# Altium footprint library MP002808.PcbLib: 1 footprints
Each footprint in its own frame and in the unit in brackets; x right, y up, seen from the top. Pads: shape width x height; smd on the part's side, far side on the other; paste and mask are expansions set on the pad; w line width, h text height; cw(c..) or ccw(c..) is an arc to the next point about the centre after c.
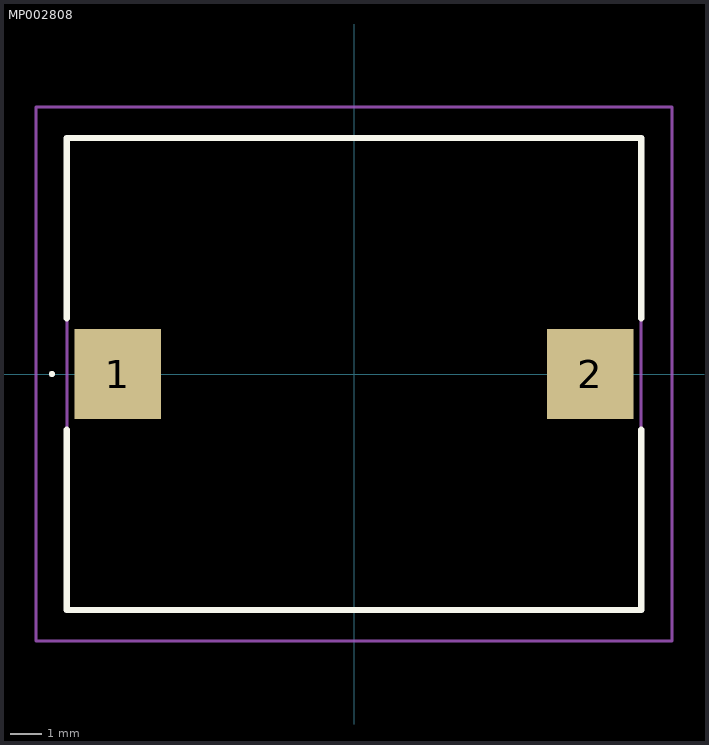
[diagram p0: the footprint, top view; thin cyan lines are the x and y axes]

## MP002808 [mm]
pads (2):
  rect 2.79x2.92 smd: 1(-7.62,0) 2(7.62,0)
Top Overlay:
  lines w0.1: -9.8,0 -9.8,0 ; -9.8,0 ccw(c-9.75,0) -9.7,0 ; -9.8,0 cw(c-9.75,0) -9.7,0 ; -9.7,0 -9.7,0
  lines w0.2: -9.27,-1.8 -9.27,-7.62 9.27,-7.62 9.27,-1.8 ; -9.27,1.8 -9.27,7.62 9.27,7.62 9.27,1.8
Mechanical 15:
  lines w0.1: -9.27,-7.62 9.27,-7.62 9.27,7.62 -9.27,7.62 -9.27,-7.62
Mechanical 20:
  lines w0.1: -10.27,-8.62 10.27,-8.62 10.27,8.62 -10.27,8.62 -10.27,-8.62